# Altium schematic symbol library Res_Vishay_ CRCW08050000Z0EAHP_0_Ohm.SchLib: 1 symbol
Pins are listed as number, name and electrical type; pins without a type are passive.

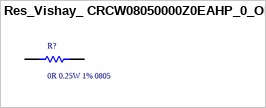
[diagram p0: symbol Res_Vishay_ CRCW08050000Z0EAHP_0_Ohm]

## Res_Vishay_ CRCW08050000Z0EAHP_0_Ohm
designator R?, comment 0R 0.25W 1% 0805
0R 0.25W 1% 0805 (2012 Metric)  SMD; Supplier 1: Mouser; Supplier Part Number 1: 71-CRCW08050000Z0EAH
footprint Res_Vishay_ CRCW08050000Z0EAHP_0_Ohm (Thick Film Resistors - SMD 1/2W Zeroohm Jumper High Power AEC-Q200)
pins: 1, 2